# EAGLE library part AD7124-8BCPZ (library AD7124-8BCPZ)
8-Channel, Low Noise, Low Power, 24-Bit, Sigma-Delta ADC with PGA and Reference Source: Datasheet <https://www.analog.com/AD7124-8/datasheet>
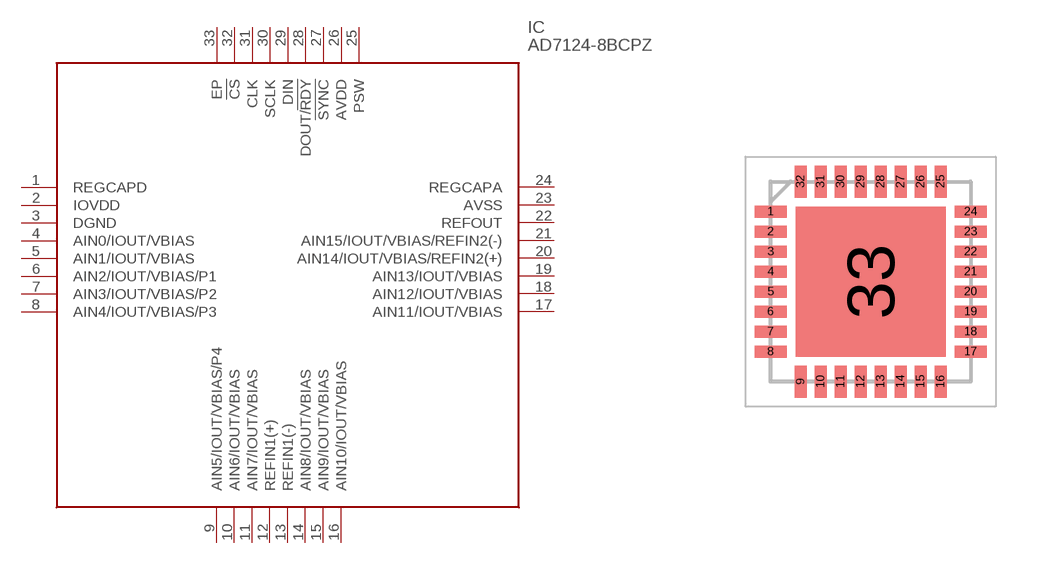
[diagram p0: symbol with the pads of QFN50P500X500X80-33N; footprint QFN50P500X500X80-33N]

Designator prefix IC

## AD7124-8BCPZ (Description: 8-Channel, Low Noise, Low Power, 24-Bit, Sigma-Delta ADC with PGA and Reference; Height: 0.8mm; Manufacturer_Name: Analog Devices; Manufacturer_Part_Number: AD7124-8BCPZ; Mouser_Part_Number: 584-AD7124-8BCPZ; Mouser_Price-Stock: https://www.mouser.co.uk/ProductDetail/Analog-Devices/AD7124-8BCPZ?qs=Ky1INM14uHrhdeD2dxIX6Q%3D%3D)  [QFN50P500X500X80-33N]
1  REGCAPD
2  IOVDD
3  DGND
4  AIN0/IOUT/VBIAS
5  AIN1/IOUT/VBIAS
6  AIN2/IOUT/VBIAS/P1
7  AIN3/IOUT/VBIAS/P2
8  AIN4/IOUT/VBIAS/P3
9  AIN5/IOUT/VBIAS/P4
10  AIN6/IOUT/VBIAS
11  AIN7/IOUT/VBIAS
12  REFIN1(+)
13  REFIN1(-)
14  AIN8/IOUT/VBIAS
15  AIN9/IOUT/VBIAS
16  AIN10/IOUT/VBIAS
17  AIN11/IOUT/VBIAS
18  AIN12/IOUT/VBIAS
19  AIN13/IOUT/VBIAS
20  AIN14/IOUT/VBIAS/REFIN2(+)
21  AIN15/IOUT/VBIAS/REFIN2(-)
22  REFOUT
23  AVSS
24  REGCAPA
25  PSW
26  AVDD
27  !SYNC
28  DOUT/!RDY
29  DIN
30  SCLK
31  CLK
32  !CS
33  EP

## Footprint QFN50P500X500X80-33N (pad centres in mm)
LFCSP:LEADFRM CHIP SCALE_2023-1
smd 0.8 x 0.3: 1 -2.5,1.75; 2 -2.5,1.25; 3 -2.5,0.75; 4 -2.5,0.25; 5 -2.5,-0.25; 6 -2.5,-0.75; 7 -2.5,-1.25; 8 -2.5,-1.75; 17 2.5,-1.75; 18 2.5,-1.25; 19 2.5,-0.75; 20 2.5,-0.25; 21 2.5,0.25; 22 2.5,0.75; 23 2.5,1.25; 24 2.5,1.75
smd 0.3 x 0.8: 9 -1.75,-2.5; 10 -1.25,-2.5; 11 -0.75,-2.5; 12 -0.25,-2.5; 13 0.25,-2.5; 14 0.75,-2.5; 15 1.25,-2.5; 16 1.75,-2.5; 25 1.75,2.5; 26 1.25,2.5; 27 0.75,2.5; 28 0.25,2.5; 29 -0.25,2.5; 30 -0.75,2.5; 31 -1.25,2.5; 32 -1.75,2.5
smd 3.75 x 3.75: 33 0,0